# EAGLE library part OPA567 (library firefly)
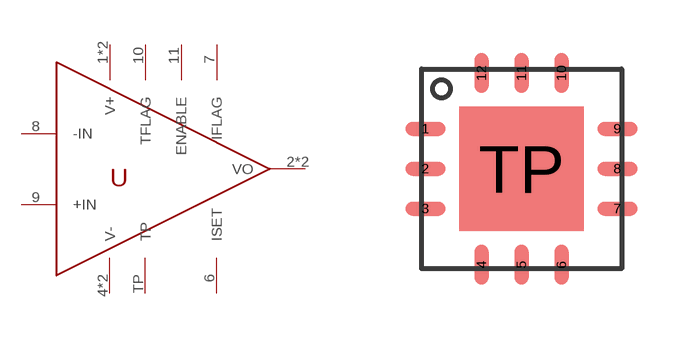
[diagram p22: symbol with the pads of S-PVQFN-N12; footprint S-PVQFN-N12]

Designator prefix -

## OPA567  [S-PVQFN-N12]
1  V+
2  VO
3  VO
4  V-
5  V-
6  ISET
7  IFLAG
8  -IN
9  +IN
10  TFLAG
11  ENABLE
12  V+
TP  TP

## Footprint S-PVQFN-N12 (pad centres in mm)
smd 1 x 0.35: 1 -2.4,1; 2 -2.4,0; 3 -2.4,-1; 7 2.4,-1; 8 2.4,0; 9 2.4,1
smd 0.35 x 1: 4 -1,-2.4; 5 0,-2.4; 6 1,-2.4; 10 1,2.4; 11 0,2.4; 12 -1,2.4
smd 3.12 x 3.12: TP 0,0